# Altium footprint library PcbLib.PcbLib: 4 footprints
Each footprint in its own frame and in the unit in brackets; x right, y up, seen from the top. Pads: shape width x height; smd on the part's side, far side on the other; paste and mask are expansions set on the pad; w line width, h text height; cw(c..) or ccw(c..) is an arc to the next point about the centre after c.
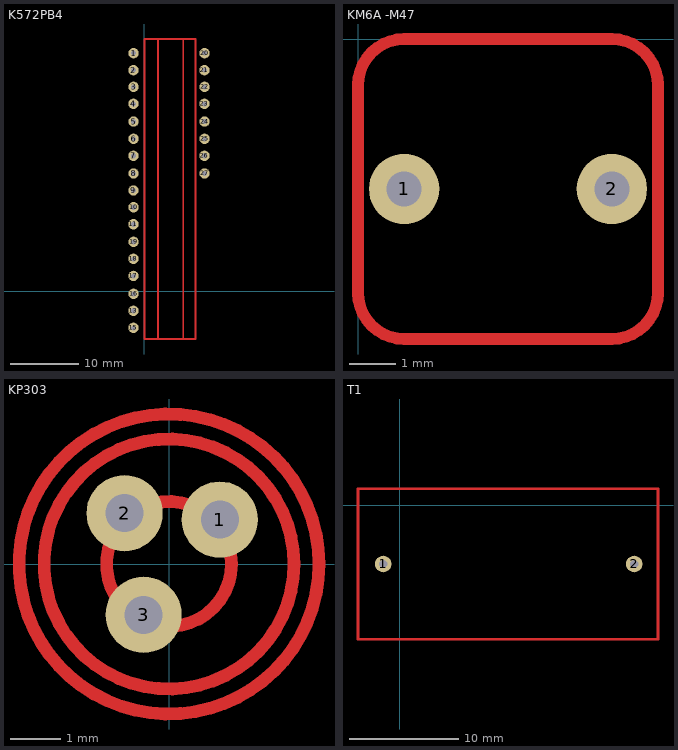
[diagram p0: the footprints below, top view; thin cyan lines are the x and y axes]

## K572PB4 [mil]
pads (25):
  round 60 hole 30: 1(-63.12,1375.13) 2(-63.35,1277.01) 3(-63.12,1180.13) 4(-63.35,1082.01) 5(-63.12,980.13) 6(-63.12,880.13) 7(-63.35,782.01) 8(-63.12,680.13) 9(-63.35,582.01) 10(-63.12,485.13) 11(-63.35,387.01) 13(-63.35,-112.99) 15(-63.35,-211.42) 16(-63.12,-14.87) 17(-63.35,88.58) 18(-63.35,187.01) 19(-63.12,285.13) 20(346.88,1375.13) 21(346.65,1277.01) 22(346.88,1180.13) 23(346.65,1082.01) 24(346.88,980.13) 25(346.88,880.13) 26(346.65,782.01) 27(346.88,680.13)
Top Layer:
  lines w10: 78.74,-275.59 78.74,1456.69 ; 223.74,-275.59 223.74,1456.69 ; 0,-275.59 295.28,-275.59 295.28,1456.69 0,1456.69 0,-275.59

## KM6A -M47 [mil]
pads (2):
  round 60 hole 30: 1(39.37,-127.95) 2(216.54,-127.95)
Top Layer:
  lines w10: 0,-216.54 ccw(c39.37,-216.54) 39.37,-255.91 216.54,-255.91 ccw(c216.54,-216.54) 255.91,-216.54 255.91,-39.37 ccw(c216.54,-39.37) 216.54,0 39.37,0 ccw(c39.37,-39.37) 0,-39.37 0,-216.54

## KP303 [mil]
pads (3):
  round 60 hole 30: 1(40,35) 2(-35,40) 3(-20,-40)
Top Layer:
  circle w10: c0,0 r118.11
  circle w10: c0,0 r98.43
  circle w10: c0,0 r49.21

## T1 [mil]
pads (2):
  round 60 hole 30: 1(-59.06,-211.65) 2(846.46,-211.65)
Top Layer:
  lines w10: -150,-483.31 -150,60 932.68,60 932.68,-483.31 -150,-483.31